# EAGLE library part AB-RTCM032.768KHZ (library rtc)
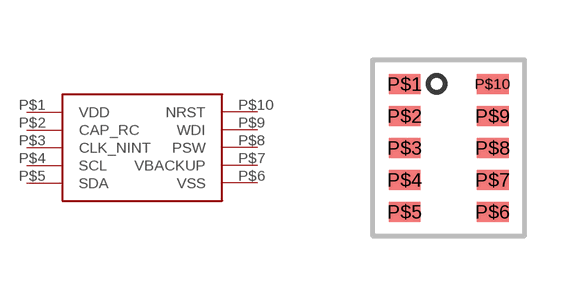
[diagram p0: symbol with the pads of AB-RTCM032.768-PACKAGE; footprint AB-RTCM032.768-PACKAGE]

Designator prefix -

## AB-RTCM032.768KHZ  [AB-RTCM032.768-PACKAGE]
P$1  VDD
P$2  CAP_RC
P$3  CLK_NINT
P$4  SCL
P$5  SDA
P$6  VSS
P$7  VBACKUP
P$8  PSW
P$9  WDI
P$10  NRST

## Footprint AB-RTCM032.768-PACKAGE (pad centres in mm)
smd 0.8 x 0.5: P$1 0,0; P$2 0,-0.8; P$3 0,-1.6; P$4 0,-2.4; P$5 0,-3.2; P$6 2.2,-3.2; P$7 2.2,-2.4; P$8 2.2,-1.6; P$9 2.2,-0.8; P$10 2.2,0